# Altium footprint library SOIC8.PcbLib: 3 footprints
Each footprint in its own frame and in the unit in brackets; x right, y up, seen from the top. Pads: shape width x height; smd on the part's side, far side on the other; paste and mask are expansions set on the pad; w line width, h text height; cw(c..) or ccw(c..) is an arc to the next point about the centre after c.
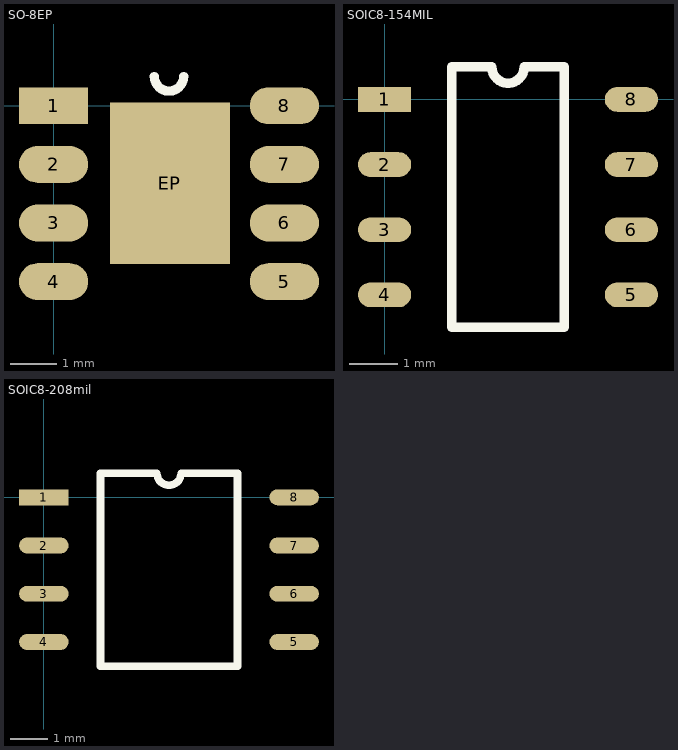
[diagram p0: the footprints below, top view; thin cyan lines are the x and y axes]

## SO-8EP [mm]
pads (9):
  rect 1.5x0.8 smd: 1(0,0)
  oval 1.5x0.8 smd: 2(0,-1.27) 3(0,-2.54) 4(0,-3.81) 5(5,-3.81) 6(5,-2.54) 7(5,-1.27) 8(5,0)
  rect 2.6x3.5 smd: EP(2.52,-1.68)
Top Overlay:
  lines w0.2: 2.183,0.635 ccw(c2.5,0.635) 2.818,0.635

## SOIC8-154MIL [mm]
pads (8):
  rect 1.1x0.51 smd: 1(0,0)
  oval 1.1x0.51 smd: 2(0,-1.346) 3(0,-2.692) 4(0,-4.038) 5(5.1,-4.038) 6(5.1,-2.692) 7(5.1,-1.346) 8(5.1,0)
Top Overlay:
  lines w0.2: 1.385,-4.711 3.715,-4.711 3.715,0.673 2.886,0.673 cw(c2.55,0.673) 2.214,0.673 1.385,0.673 1.385,-4.711

## SOIC8-208mil [mm]
pads (8):
  rect 1.31x0.42 smd: 1(0,0)
  oval 1.31x0.42 smd: 2(0,-1.27) 3(0,-2.54) 4(0,-3.81) 5(6.59,-3.81) 6(6.59,-2.54) 7(6.59,-1.27) 8(6.59,0)
Top Overlay:
  lines w0.2: 1.49,-4.445 5.1,-4.445 5.1,0.635 3.612,0.635 cw(c3.295,0.635) 2.977,0.635 1.49,0.635 1.49,-4.445